# EAGLE library part IF_USB_HUB_USB2514B (library !GPLIB_ACTIVE)
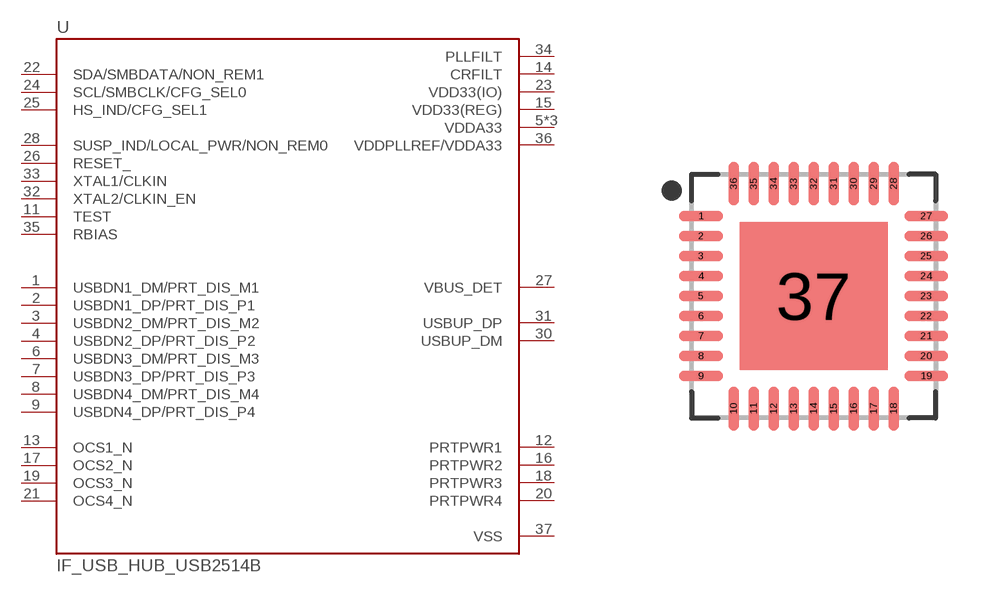
[diagram p131: symbol with the pads of QFN50P600X600X100-37T370N; footprint QFN50P600X600X100-37T370N]

Designator prefix U

## IF_USB_HUB_USB2514B_USB2514B-I/M2  [QFN50P600X600X100-37T370N]
1  USBDN1_DM/PRT_DIS_M1
2  USBDN1_DP/PRT_DIS_P1
3  USBDN2_DM/PRT_DIS_M2
4  USBDN2_DP/PRT_DIS_P2
5  VDDA33
6  USBDN3_DM/PRT_DIS_M3
7  USBDN3_DP/PRT_DIS_P3
8  USBDN4_DM/PRT_DIS_M4
9  USBDN4_DP/PRT_DIS_P4
10  VDDA33
11  TEST
12  PRTPWR1  out
13  OCS1_N  in
14  CRFILT
15  VDD33(REG)
16  PRTPWR2  out
17  OCS2_N  in
18  PRTPWR3  out
19  OCS3_N  in
20  PRTPWR4  out
21  OCS4_N  in
22  SDA/SMBDATA/NON_REM1
23  VDD33(IO)
24  SCL/SMBCLK/CFG_SEL0
25  HS_IND/CFG_SEL1
26  RESET_
27  VBUS_DET
28  SUSP_IND/LOCAL_PWR/NON_REM0
29  VDDA33
30  USBUP_DM
31  USBUP_DP
32  XTAL2/CLKIN_EN
33  XTAL1/CLKIN
34  PLLFILT
35  RBIAS
36  VDDPLLREF/VDDA33
37  VSS  pwr

## Footprint QFN50P600X600X100-37T370N (pad centres in mm)
36-QFN, 0.50 mm pitch, 6.00 X 6.00 X 1.00 mm body, 3.70 X 3.70 mm thermal pad 36-pin QFN package with 0.50 mm pitch with body size 6.00 X 6.00 X 1.00 mm and thermal pad size 3.70 X 3.70 mm
smd 1.101 x 0.267: 1 -2.816,2; 2 -2.816,1.5; 3 -2.816,1; 4 -2.816,0.5; 5 -2.816,0; 6 -2.816,-0.5; 7 -2.816,-1; 8 -2.816,-1.5; 9 -2.816,-2; 19 2.816,-2; 20 2.816,-1.5; 21 2.816,-1; 22 2.816,-0.5; 23 2.816,0; 24 2.816,0.5; 25 2.816,1; 26 2.816,1.5; 27 2.816,2
smd 0.267 x 1.101: 10 -2,-2.816; 11 -1.5,-2.816; 12 -1,-2.816; 13 -0.5,-2.816; 14 0,-2.816; 15 0.5,-2.816; 16 1,-2.816; 17 1.5,-2.816; 18 2,-2.816; 28 2,2.816; 29 1.5,2.816; 30 1,2.816; 31 0.5,2.816; 32 0,2.816; 33 -0.5,2.816; 34 -1,2.816; 35 -1.5,2.816; 36 -2,2.816
smd 3.7 x 3.7: 37 0,0